# EAGLE library part TL974IPWR (library custom_parts)
TI Rail to Rail Quad Op-Amp
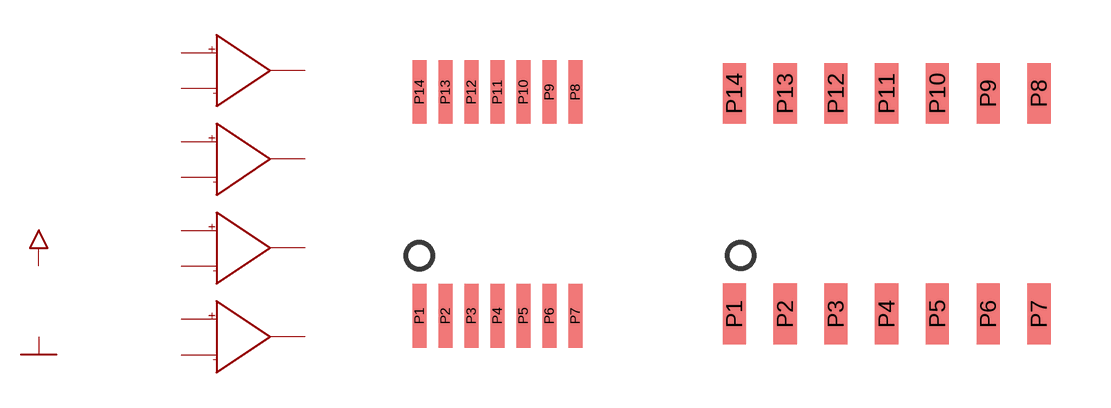
[diagram p9: symbol with the pads of TSSOP-14; footprints TSSOP-14, SOIC-14]

Designator prefix -; gates G$1=OP-AMP G$2=OP-AMP G$3=OP-AMP G$4=OP-AMP G$5=GND G$6=PWR

## TL974IPWRTL974IPWR  [TSSOP-14]
P1  G$1:OUT
P2  G$1:-
P3  G$1:+
P4  G$6:V+
P5  G$2:+
P6  G$2:-
P7  G$2:OUT
P8  G$3:OUT
P9  G$3:-
P10  G$3:+
P11  G$5:GND  pwr
P12  G$4:+
P13  G$4:-
P14  G$4:OUT

## TL974IPWRMC33204DG  [SOIC-14]
Pads as for TSSOP-14

## Footprint TSSOP-14 (pad centres in mm)
smd 0.35 x 1.6: P1 -1.95,-2.8; P2 -1.3,-2.8; P3 -0.65,-2.8; P4 0,-2.8; P5 0.65,-2.8; P6 1.3,-2.8; P7 1.95,-2.8; P8 1.95,2.8; P9 1.3,2.8; P10 0.65,2.8; P11 0,2.8; P12 -0.65,2.8; P13 -1.3,2.8; P14 -1.95,2.8

## Footprint SOIC-14 (pad centres in mm)
smd 0.58 x 1.52: P1 -3.81,-2.76; P2 -2.54,-2.76; P3 -1.27,-2.76; P4 0,-2.76; P5 1.27,-2.76; P6 2.54,-2.76; P7 3.81,-2.76; P8 3.81,2.76; P9 2.54,2.76; P10 1.27,2.76; P11 0,2.76; P12 -1.27,2.76; P13 -2.54,2.76; P14 -3.81,2.76